# Altium footprint library DPC_ICE_UP11.PcbLib: 27 footprints (part 1 of 2)
Each footprint in its own frame and in the unit in brackets; x right, y up, seen from the top. Pads: shape width x height; smd on the part's side, far side on the other; paste and mask are expansions set on the pad; w line width, h text height; cw(c..) or ccw(c..) is an arc to the next point about the centre after c.
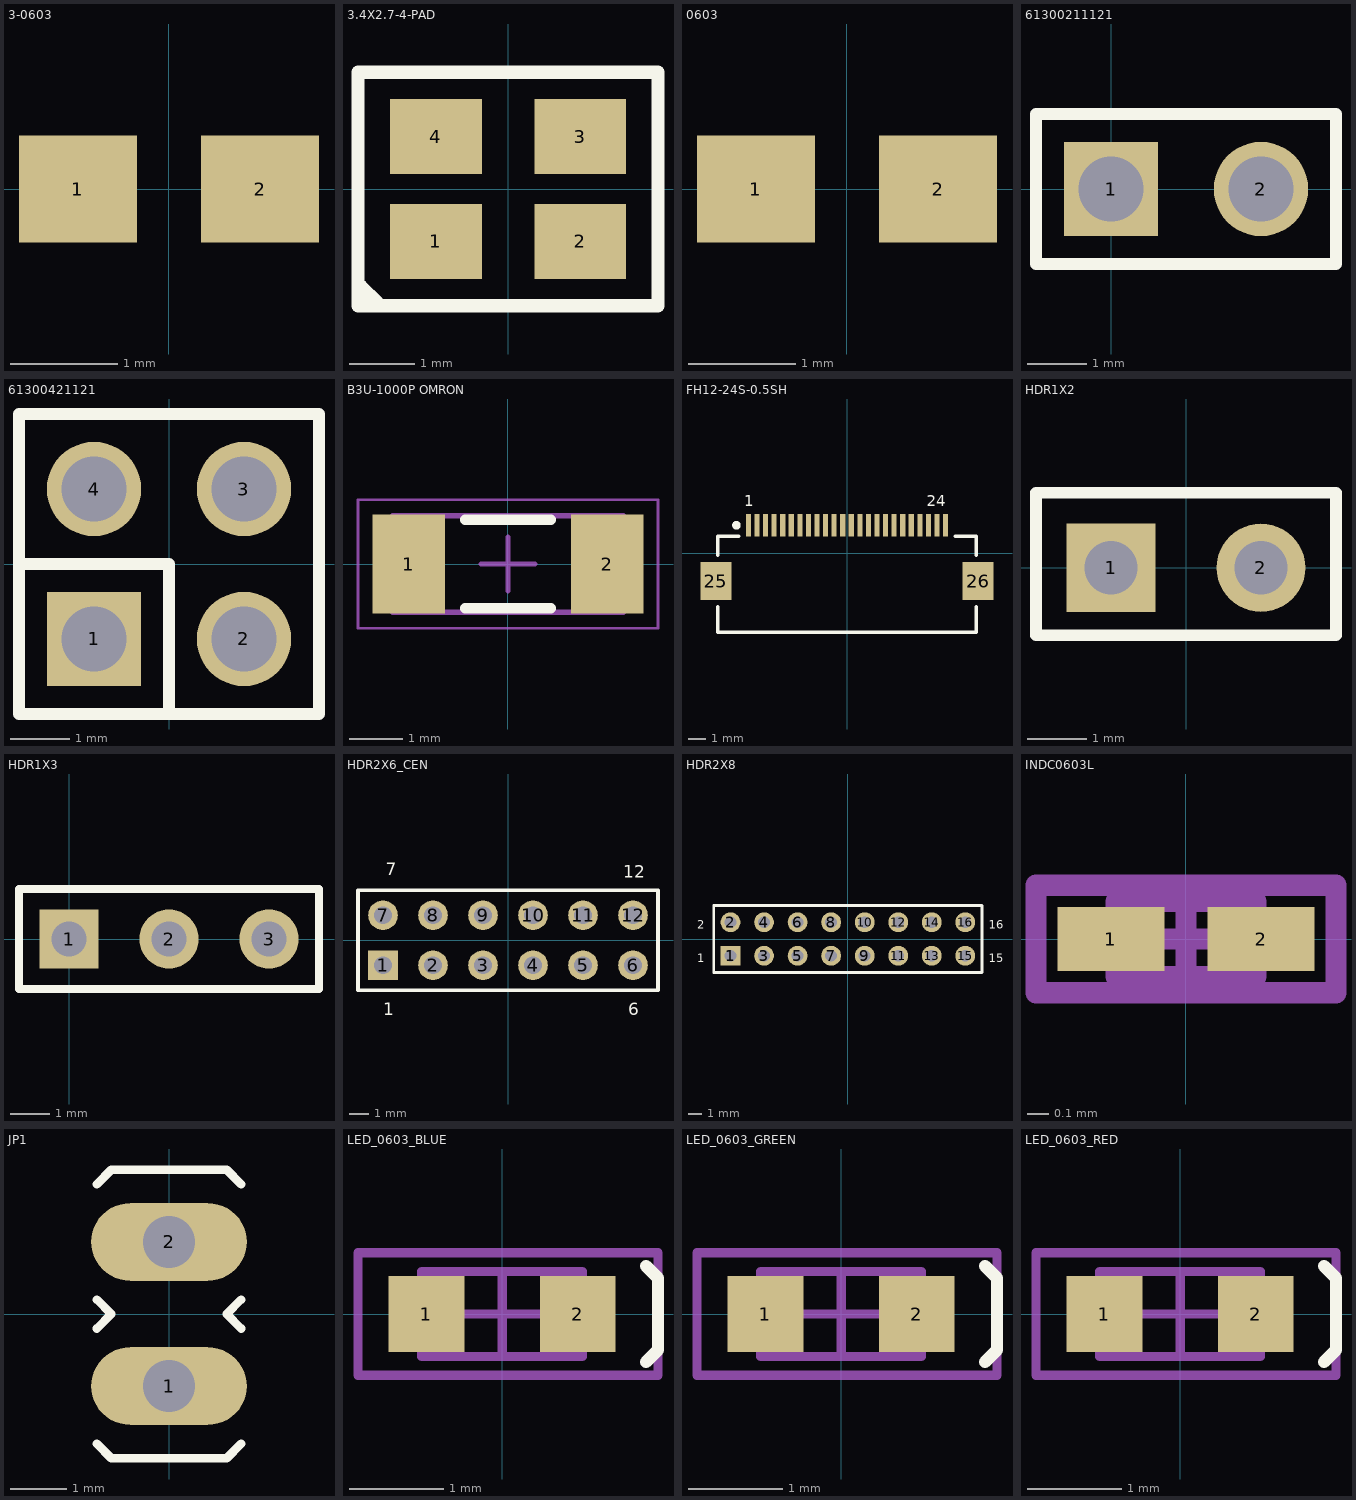
[diagram p0: the footprints below, top view; thin cyan lines are the x and y axes]

## 3-0603 [mm] "Chip Resistor; Body 1.6 x 0.9 mm (LxW typ)"
height 0.55
pads (2):
  rect 1.1x1 smd: 1(-0.85,0) 2(0.85,0)
3D body "res_0603.step": height 0.55, standoff -0.05, extent -0.75,-0.315 0.85,0.315

## 3.4X2.7-4-PAD [mil]
pads (4):
  rect 55.12x45.28 smd: 1(-43.31,-31.5) 2(43.31,-31.5) 3(43.31,31.5) 4(-43.31,31.5)
Top Overlay:
  lines w7.87: 90,-70 90,70
  lines w8: 90,-70 -90,-70 -90,70 90,70
  lines w10: -89,-59 -79,-69
3D body "3.2x2.5 OSC.STEP": height 30.51, standoff 0, extent -62.99,-49.21 62.99,49.21

## 0603 [mm] "Chip Capacitor; Body 1.6 x 0.8 mm (LxW typ)"
height 0.87
pads (2):
  rect 1.1x1 smd: 1(-0.85,0) 2(0.85,0)
3D body "cap_0603.step": height 0.86, standoff 0, extent -0.8,-0.4 0.8,0.4

## 61300211121 [mm] "2 pins, 1 row, straight, gold plating"
height 8.54
pads (2):
  rect 1.6x1.6 hole 1.1: 1(0,0)
  round 1.6 hole 1.1: 2(2.54,0)
Top Overlay:
  lines w0.2: -1.27,-1.27 -1.27,1.27 3.81,1.27 3.81,-1.27 -1.27,-1.27
3D body "61300211121.stp": height 8.54, standoff -3, extent -1.27,-1.27 3.81,1.27

## 61300421121 [mm] "4 pins, dual pin, straight, gold plating"
height 8.54
pads (4):
  rect 1.6x1.6 hole 1.1: 1(-1.27,-1.27)
  round 1.6 hole 1.1: 2(1.27,-1.27) 3(1.27,1.27) 4(-1.27,1.27)
Top Overlay:
  lines w0.2: -2.54,0 0,0 0,-2.54 ; -2.54,-2.54 2.54,-2.54 2.54,2.54 -2.54,2.54 -2.54,-2.54
3D body "61300421121.stp": height 8.55, standoff -2.99, extent -2.54,-2.54 2.54,2.54

## B3U-1000P OMRON [mm] "Ultra-small Tactile Switch (1.2 × 3 × 2.5 mm (H × W × D)"
height 16
pads (2):
  rect 1.35x1.85 smd: 1(-1.85,0) 2(1.85,0)
Top Overlay:
  lines w0.2: -0.8,-0.825 0.8,-0.825 ; -0.8,0.825 0.8,0.825
Mechanical 13:
  lines w0.1: -2.15,-0.9 2.15,-0.9 2.15,0.9 -2.15,0.9 -2.15,-0.9
Mechanical 15:
  lines w0.05: -2.8,-1.2 2.8,-1.2 2.8,1.2 -2.8,1.2 -2.8,-1.2
  lines w0.1: -0.5,0 0.5,0 ; 0,-0.5 0,0.5
3D body "OMRON B3U1000P.STEP": height 1.6, standoff 0, extent -1.898,-1.25 2.102,1.25

## FH12-24S-0.5SH [mm] "Connector; FH12 Series; 24 Position; 0.5mm Spaced Bottom Contact"
height 2
pads (26):
  rect 0.3x1.3 smd mask+0.025: 1(-5.75,1.625) 2(-5.25,1.625) 3(-4.75,1.625) 4(-4.25,1.625) 5(-3.75,1.625) 6(-3.25,1.625) 7(-2.75,1.625) 8(-2.25,1.625) 9(-1.75,1.625) 10(-1.25,1.625) 11(-0.75,1.625) 12(-0.25,1.625) 13(0.25,1.625) 14(0.75,1.625) 15(1.25,1.625) 16(1.75,1.625) 17(2.25,1.625) 18(2.75,1.625) 19(3.25,1.625) 20(3.75,1.625) 21(4.25,1.625) 22(4.75,1.625) 23(5.25,1.625) 24(5.75,1.625)
  rect 1.8x2.2 smd mask+0.051: 25(-7.65,-1.625)
  rect 1.8x2.2 smd mask+0.038: 26(7.65,-1.625)
Top Overlay:
  circle w0.25: c-6.45,1.625 r0.125
  lines w0.2: -7.55,-3.125 -7.55,-4.625 7.55,-4.625 7.55,-3.125 ; -7.55,-0.125 -7.55,0.975 -6.3,0.975 ; 6.3,0.975 7.55,0.975 7.55,-0.125
  text "24" at 4.65,2.725 h0.64
  text "1" at -6,2.725 h0.64
3D body "FH12-24S-0.5SH_oriz1.stp": height 2.07, standoff -0.03, extent -8.075,-4.851 8.025,1.549

## HDR1X2 [mm] "Connector; Header; 2 Position"
height 0.68
pads (2):
  rect 1.5x1.5 hole 0.9: 1(-1.27,0)
  round 1.5 hole 0.9: 2(1.27,0)
Top Overlay:
  lines w0.2: -2.54,-1.143 2.54,-1.143 2.54,1.27 -2.54,1.27 -2.54,-1.143
3D body "User Library-Header1x2.STEP": height 8.55, standoff -2.43, extent -2.54,-1.194 2.54,1.346

## HDR1X3 [mm] "Connector; Header; 3 Position"
pads (3):
  rect 1.5x1.5 hole 0.9: 1(0,0)
  round 1.5 hole 0.9: 2(2.54,0) 3(5.08,0)
Top Overlay:
  lines w0.2: -1.27,-1.27 -1.27,1.27 6.35,1.27 6.35,-1.27 -1.27,-1.27
3D body "HDR1X3.STEP": height 8.38, standoff -3.81, extent -1.27,-1.27 6.35,1.27

## HDR2X6_CEN [mm] "Connector; Header; 6x2 Position"
height 0.68
pads (12):
  rect 1.5x1.5 hole 0.9: 1(-6.35,-1.27)
  round 1.5 hole 0.9: 2(-3.81,-1.27) 3(-1.27,-1.27) 4(1.27,-1.27) 5(3.81,-1.27) 6(6.35,-1.27) 7(-6.35,1.27) 8(-3.81,1.27) 9(-1.27,1.27) 10(1.27,1.27) 11(3.81,1.27) 12(6.35,1.27)
Top Overlay:
  lines w0.2: -7.62,-2.54 -7.62,2.54 7.62,2.54 7.62,-2.54 -7.62,-2.54
  text "7" at -6.223,3.302 h0.64
  text "1" at -6.35,-3.81 h0.64
  text "6" at 6.096,-3.81 h0.64
  text "12" at 5.842,3.175 h0.64
3D body "SSW-106-02-G-D-RA.stp": height 0.7, standoff -6.78, extent -7.925,-1.524 7.823,11.252

## HDR2X8 [mm] "Connector; Header; 8x2 Position"
pads (16):
  rect 1.5x1.5 hole 0.9: 1(-8.89,-1.27)
  round 1.5 hole 0.9: 2(-8.89,1.27) 3(-6.35,-1.27) 4(-6.35,1.27) 5(-3.81,-1.27) 6(-3.81,1.27) 7(-1.27,-1.27) 8(-1.27,1.27) 9(1.27,-1.27) 10(1.27,1.27) 11(3.81,-1.27) 12(3.81,1.27) 13(6.35,-1.27) 14(6.35,1.27) 15(8.89,-1.27) 16(8.89,1.27)
Top Overlay:
  lines w0.2: -10.16,-2.54 -10.16,2.54 10.16,2.54 10.16,-2.54 -10.16,-2.54
  text "2" at -11.43,0.762 h0.64
  text "1" at -11.43,-1.778 h0.64
  text "15" at 10.657,-1.778 h0.64
  text "16" at 10.657,0.762 h0.64

## INDC0603L [mm] "Chip Inductor, Body 0.6x0.3mm, IPC High Density"
height 0.35
pads (2):
  rect 0.5x0.3 smd mask+0.025: 1(-0.35,0) 2(0.35,0)
Mechanical 13:
  lines w0.1: -0.325,-0.175 -0.325,0.175 0.325,0.175 0.325,-0.175 -0.325,-0.175
Mechanical 15:
  lines w0.1: -0.175,0 0.175,0 ; 0,-0.175 0,0.175 ; -0.7,-0.25 -0.7,0.25 0.7,0.25 0.7,-0.25 -0.7,-0.25
3D body: height 0.35, standoff 0, extent -0.325,-0.175 0.325,0.175

## JP1 [mil]
height 26.77
pads (2):
  oval 108x54 hole 36: 1(0,-50) 2(0,50)
Top Overlay:
  lines w6: -50,-90 -40,-100 40,-100 50,-90 ; -50,-10 -40,0 -50,10 ; -50,90 -40,100 40,100 50,90 ; 50,-10 40,0 50,10
Mechanical 16:
  rectangle: -12,-62.01 12,-38.01
  rectangle: -12,37.99 12,61.99
3D body "User Library-Header1x2.STEP": height 336.79, standoff -95.49, extent -50,-100 50,100

## LED_0603_BLUE [mm] "Chip LED, 2-Leads, Body 1.6x0.8mm, IPC Medium Density"
height 0.68
pads (2):
  rect 0.8x0.8 smd: 1(-0.8,0) 2(0.8,0)
Top Overlay:
  lines w0.127: 1.524,-0.508 1.651,-0.381 1.651,0.381 1.524,0.508
Mechanical 13:
  lines w0.1: -0.85,-0.45 -0.85,0.45 0.85,0.45 0.85,-0.45 -0.85,-0.45
Mechanical 15:
  lines w0.1: -0.45,0 0.45,0 ; 0,-0.45 0,0.45 ; -1.525,-0.65 -1.525,0.65 1.651,0.65 1.651,-0.65 -1.525,-0.65
3D body "WL-SMCW_0603_LED.stp": height 0.7, standoff 0, extent -0.8,-0.4 0.8,0.4

## LED_0603_GREEN [mm] "Chip LED, 2-Leads, Body 1.6x0.8mm, IPC Medium Density"
height 0.68
pads (2):
  rect 0.8x0.8 smd: 1(-0.8,0) 2(0.8,0)
Top Overlay:
  lines w0.127: 1.524,-0.508 1.651,-0.381 1.651,0.381 1.524,0.508
Mechanical 13:
  lines w0.1: -0.85,-0.45 0.85,-0.45 0.85,0.45 -0.85,0.45 -0.85,-0.45
Mechanical 15:
  lines w0.1: -0.45,0 0.45,0 ; 0,-0.45 0,0.45 ; -1.525,-0.65 1.651,-0.65 1.651,0.65 -1.525,0.65 -1.525,-0.65
3D body "WL-SMCW_0603_LED.stp": height 0.7, standoff 0, extent -0.8,-0.4 0.8,0.4

## LED_0603_RED [mm] "Chip LED, 2-Leads, Body 1.6x0.8mm, IPC Medium Density"
height 0.68
pads (2):
  rect 0.8x0.8 smd: 1(-0.8,0) 2(0.8,0)
Top Overlay:
  lines w0.127: 1.524,-0.508 1.651,-0.381 1.651,0.381 1.524,0.508
Mechanical 13:
  lines w0.1: -0.85,-0.45 -0.85,0.45 0.85,0.45 0.85,-0.45 -0.85,-0.45
Mechanical 15:
  lines w0.1: -0.45,0 0.45,0 ; 0,-0.45 0,0.45 ; -1.525,-0.65 -1.525,0.65 1.651,0.65 1.651,-0.65 -1.525,-0.65
3D body "WL-SMCW_0603_LED.stp": height 0.7, standoff 0, extent -0.8,-0.4 0.8,0.4